# EAGLE library part AGLN250V2 (library IC)
Digi-Key Part Number-- 1100-1135-ND ,Manufacturer -- Microsemi SoC ,Manufacturer Part Number-- AGLN250V5-VQG100 ,Description-- IC FPGA 250K 1.5V 100VTQFP ,Family -- Embedded - FPGAs (Field Programmable Gate Array) ,Series-- IGLOO nano ,Voltage - Supply --1.425 V ~ 1.575 V ,Operating Temperature-- -20°C ~ 70°C ,Package / Case --100-TQFP
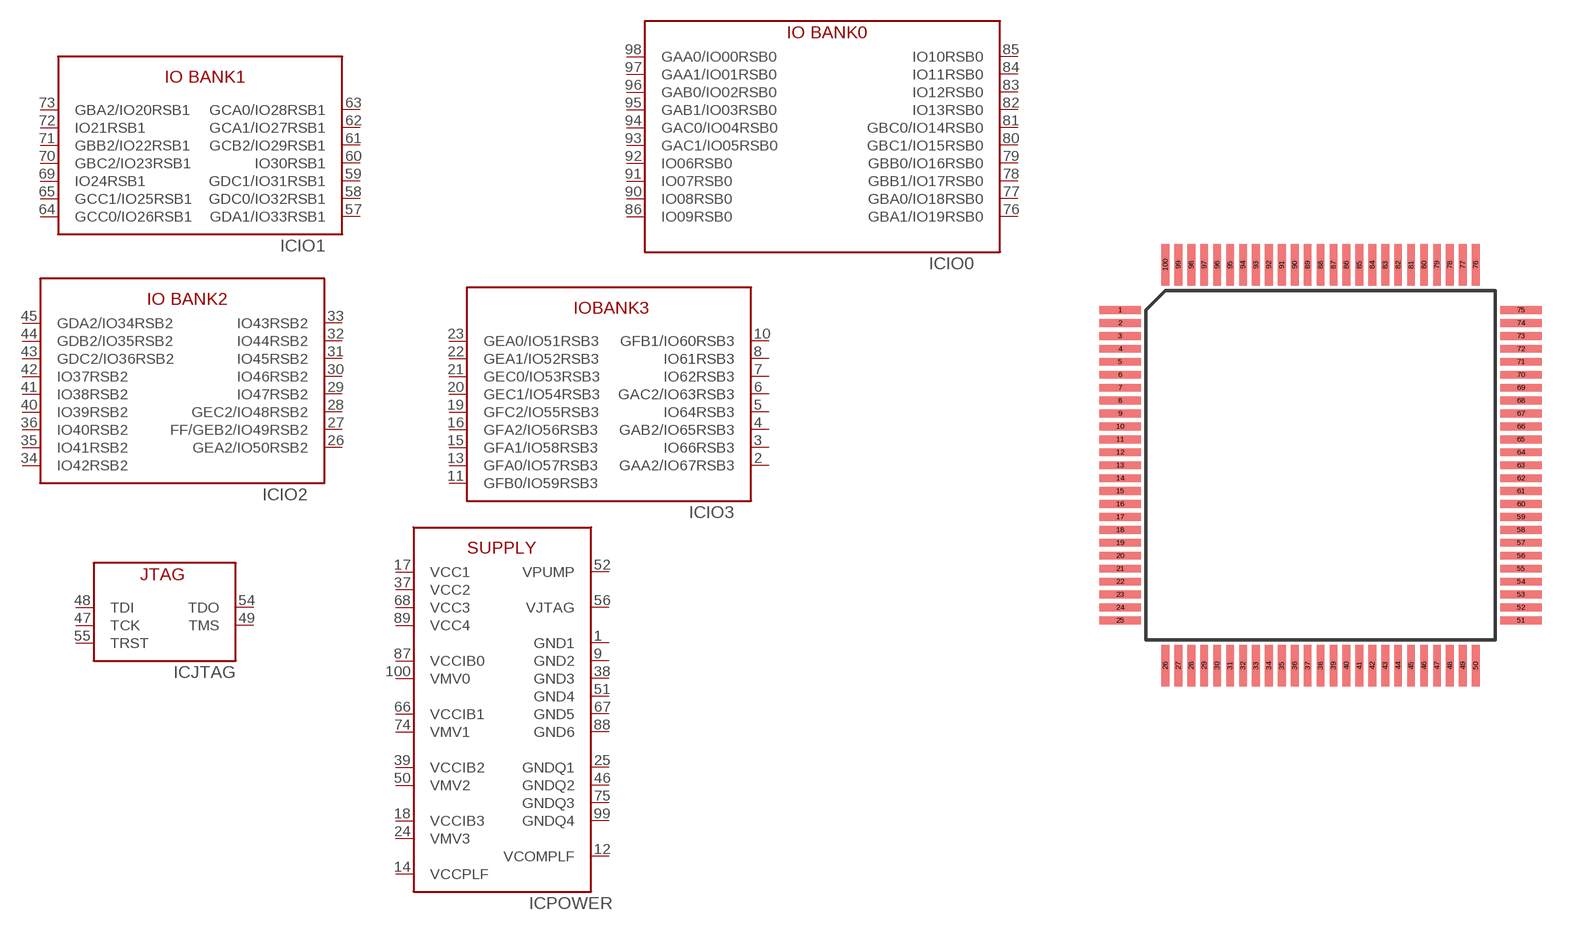
[diagram p191: symbol with the pads of VQ100; footprint VQ100]

Designator prefix IC; gates IO0=AGLN250_IOBANK0 IO1=AGLN250_IOBANK1 IO2=AGLN250_IOBANK2 IO3=AGLN250_IOBANK3 JTAG=AGLN250_JTAG&SPECIAL POWER=AGLN250_SUPPLY

## AGLN250V2-VQ100  [VQ100]
1  POWER:GND1
2  IO3:GAA2/IO67RSB3
3  IO3:IO66RSB3
4  IO3:GAB2/IO65RSB3
5  IO3:IO64RSB3
6  IO3:GAC2/IO63RSB3
7  IO3:IO62RSB3
8  IO3:IO61RSB3
9  POWER:GND2
10  IO3:GFB1/IO60RSB3
11  IO3:GFB0/IO59RSB3
12  POWER:VCOMPLF
13  IO3:GFA0/IO57RSB3
14  POWER:VCCPLF
15  IO3:GFA1/IO58RSB3
16  IO3:GFA2/IO56RSB3
17  POWER:VCC1
18  POWER:VCCIB3
19  IO3:GFC2/IO55RSB3
20  IO3:GEC1/IO54RSB3
21  IO3:GEC0/IO53RSB3
22  IO3:GEA1/IO52RSB3
23  IO3:GEA0/IO51RSB3
24  POWER:VMV3
25  POWER:GNDQ1
26  IO2:GEA2/IO50RSB2
27  IO2:FF/GEB2/IO49RSB2
28  IO2:GEC2/IO48RSB2
29  IO2:IO47RSB2
30  IO2:IO46RSB2
31  IO2:IO45RSB2
32  IO2:IO44RSB2
33  IO2:IO43RSB2
34  IO2:IO42RSB2
35  IO2:IO41RSB2
36  IO2:IO40RSB2
37  POWER:VCC2
38  POWER:GND3
39  POWER:VCCIB2
40  IO2:IO39RSB2
41  IO2:IO38RSB2
42  IO2:IO37RSB2
43  IO2:GDC2/IO36RSB2
44  IO2:GDB2/IO35RSB2
45  IO2:GDA2/IO34RSB2
46  POWER:GNDQ2
47  JTAG:TCK
48  JTAG:TDI
49  JTAG:TMS
50  POWER:VMV2
51  POWER:GND4
52  POWER:VPUMP
54  JTAG:TDO
55  JTAG:TRST
56  POWER:VJTAG
57  IO1:GDA1/IO33RSB1
58  IO1:GDC0/IO32RSB1
59  IO1:GDC1/IO31RSB1
60  IO1:IO30RSB1
61  IO1:GCB2/IO29RSB1
62  IO1:GCA1/IO27RSB1
63  IO1:GCA0/IO28RSB1
64  IO1:GCC0/IO26RSB1
65  IO1:GCC1/IO25RSB1
66  POWER:VCCIB1
67  POWER:GND5
68  POWER:VCC3
69  IO1:IO24RSB1
70  IO1:GBC2/IO23RSB1
71  IO1:GBB2/IO22RSB1
72  IO1:IO21RSB1
73  IO1:GBA2/IO20RSB1
74  POWER:VMV1
75  POWER:GNDQ3
76  IO0:GBA1/IO19RSB0
77  IO0:GBA0/IO18RSB0
78  IO0:GBB1/IO17RSB0
79  IO0:GBB0/IO16RSB0
80  IO0:GBC1/IO15RSB0
81  IO0:GBC0/IO14RSB0
82  IO0:IO13RSB0
83  IO0:IO12RSB0
84  IO0:IO11RSB0
85  IO0:IO10RSB0
86  IO0:IO09RSB0
87  POWER:VCCIB0
88  POWER:GND6
89  POWER:VCC4
90  IO0:IO08RSB0
91  IO0:IO07RSB0
92  IO0:IO06RSB0
93  IO0:GAC1/IO05RSB0
94  IO0:GAC0/IO04RSB0
95  IO0:GAB1/IO03RSB0
96  IO0:GAB0/IO02RSB0
97  IO0:GAA1/IO01RSB0
98  IO0:GAA0/IO00RSB0
99  POWER:GNDQ4
100  POWER:VMV0

## Footprint VQ100 (pad centres in mm)
smd 1.6 x 0.3: 1 -7.75,6; 2 -7.75,5.5; 3 -7.75,5; 4 -7.75,4.5; 5 -7.75,4; 6 -7.75,3.5; 7 -7.75,3; 8 -7.75,2.5; 9 -7.75,2; 10 -7.75,1.5; 11 -7.75,1; 12 -7.75,0.5; 13 -7.75,0; 14 -7.75,-0.5; 15 -7.75,-1; 16 -7.75,-1.5; 17 -7.75,-2; 18 -7.75,-2.5; 19 -7.75,-3; 20 -7.75,-3.5; 21 -7.75,-4; 22 -7.75,-4.5; 23 -7.75,-5; 24 -7.75,-5.5; 25 -7.75,-6; 51 7.75,-6; 52 7.75,-5.5; 53 7.75,-5; 54 7.75,-4.5; 55 7.75,-4; 56 7.75,-3.5; 57 7.75,-3; 58 7.75,-2.5; 59 7.75,-2; 60 7.75,-1.5; 61 7.75,-1; 62 7.75,-0.5; 63 7.75,0; 64 7.75,0.5; 65 7.75,1; 66 7.75,1.5; 67 7.75,2; 68 7.75,2.5; 69 7.75,3; 70 7.75,3.5; 71 7.75,4; 72 7.75,4.5; 73 7.75,5; 74 7.75,5.5; 75 7.75,6
smd 0.3 x 1.6: 26 -6,-7.75; 27 -5.5,-7.75; 28 -5,-7.75; 29 -4.5,-7.75; 30 -4,-7.75; 31 -3.5,-7.75; 32 -3,-7.75; 33 -2.5,-7.75; 34 -2,-7.75; 35 -1.5,-7.75; 36 -1,-7.75; 37 -0.5,-7.75; 38 0,-7.75; 39 0.5,-7.75; 40 1,-7.75; 41 1.5,-7.75; 42 2,-7.75; 43 2.5,-7.75; 44 3,-7.75; 45 3.5,-7.75; 46 4,-7.75; 47 4.5,-7.75; 48 5,-7.75; 49 5.5,-7.75; 50 6,-7.75; 76 6,7.75; 77 5.5,7.75; 78 5,7.75; 79 4.5,7.75; 80 4,7.75; 81 3.5,7.75; 82 3,7.75; 83 2.5,7.75; 84 2,7.75; 85 1.5,7.75; 86 1,7.75; 87 0.5,7.75; 88 0,7.75; 89 -0.5,7.75; 90 -1,7.75; 91 -1.5,7.75; 92 -2,7.75; 93 -2.5,7.75; 94 -3,7.75; 95 -3.5,7.75; 96 -4,7.75; 97 -4.5,7.75; 98 -5,7.75; 99 -5.5,7.75; 100 -6,7.75